# Altium footprint library PcbLib1.PcbLib: 13 footprints
Each footprint in its own frame and in the unit in brackets; x right, y up, seen from the top. Pads: shape width x height; smd on the part's side, far side on the other; paste and mask are expansions set on the pad; w line width, h text height; cw(c..) or ccw(c..) is an arc to the next point about the centre after c.
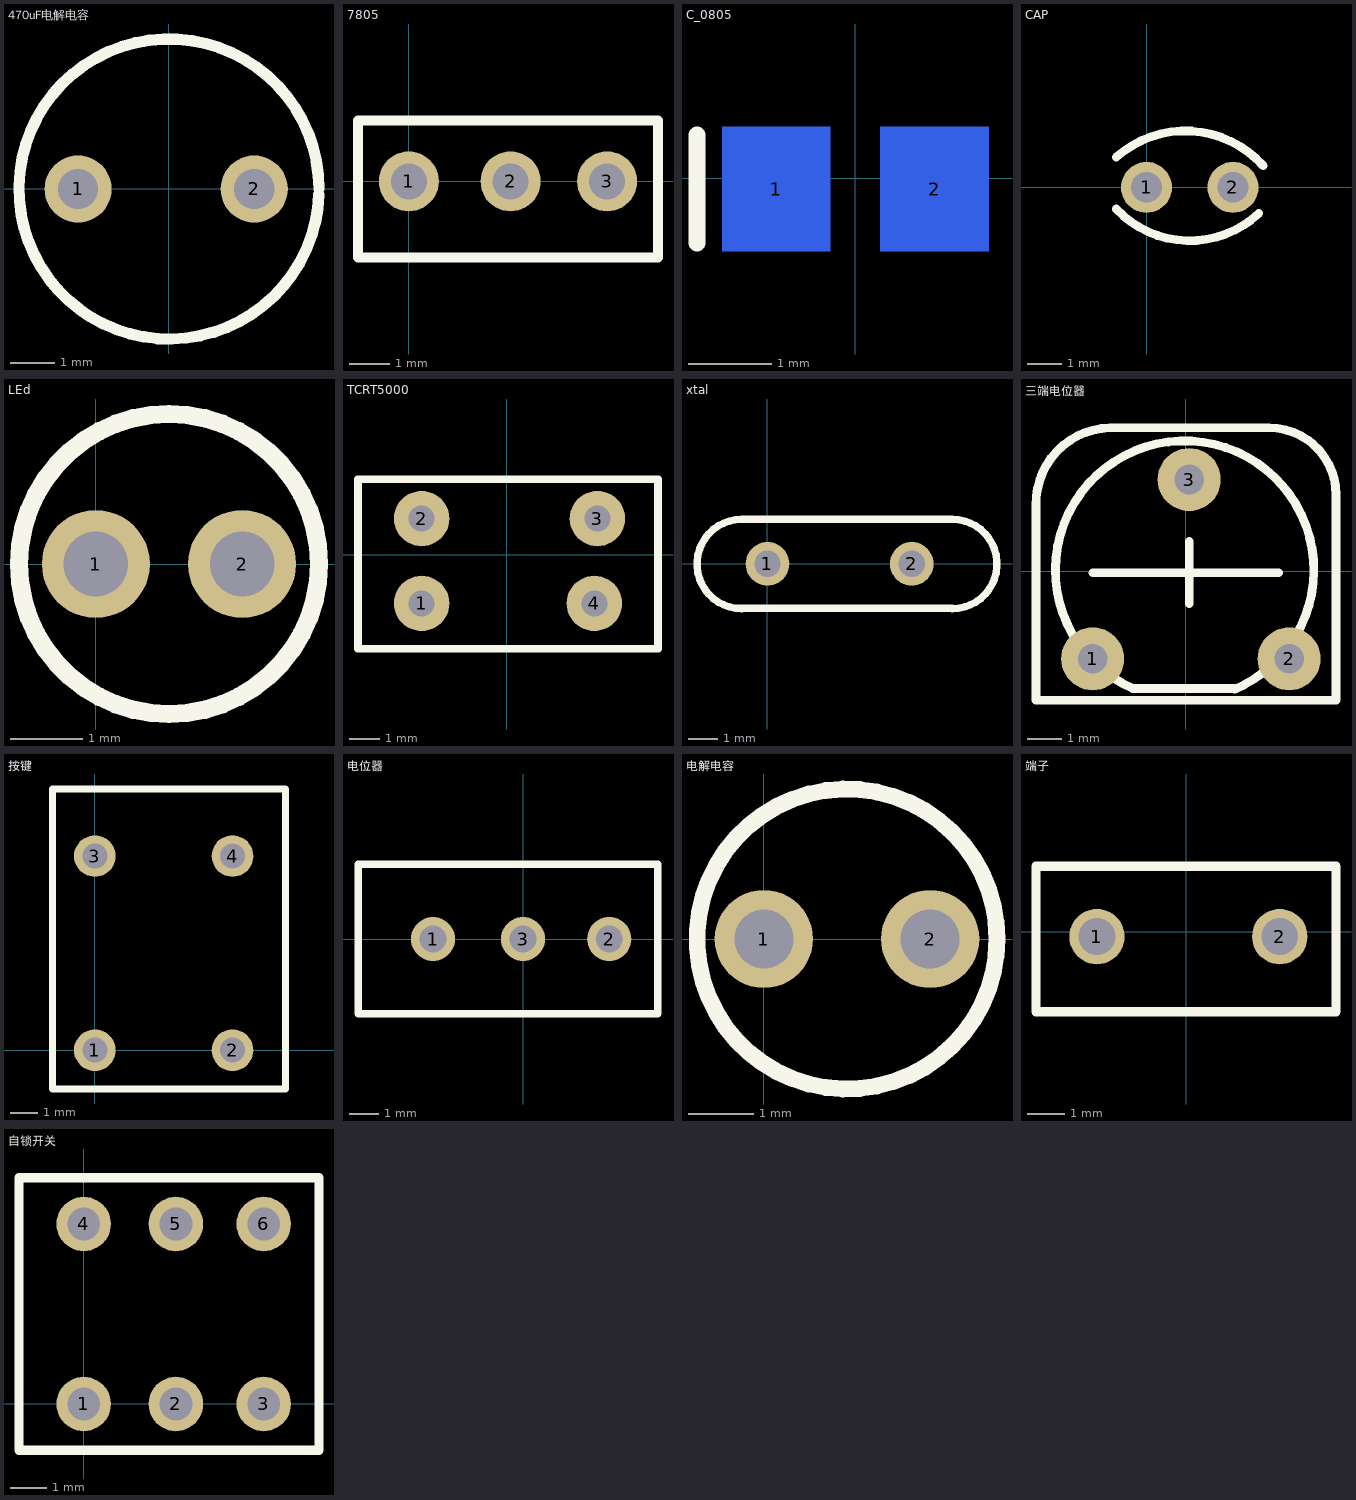
[diagram p0: the footprints below, top view; thin cyan lines are the x and y axes]

## 470uF电解电容 [mm]
pads (2):
  round 1.5 hole 0.9: 1(-2.032,0) 2(1.905,0)
Top Overlay:
  lines w0.254: 3.351,-0.124 cw(c0,0) 3.353,0

## 7805 [mm]
pads (3):
  round 1.5 hole 0.9: 1(0,0) 2(2.54,0) 3(4.953,0)
Top Overlay:
  lines w0.254: -1.27,-1.905 -1.27,1.524 6.223,1.524 6.223,-1.905 -1.27,-1.905

## C_0805 [mm]
pads (2):
  rect 1.3x1.5 smd far side: 1(-0.95,-0.127) 2(0.95,-0.127)
Top Overlay:
  lines w0.2: -1.9,-0.777 -1.9,0.523

## CAP [mm]
pads (2):
  round 1.5 hole 0.9: 1(0,0) 2(2.54,0)
Top Overlay:
  lines w0.254: -0.889,-0.635 ccw(c1.27,1.397) 3.302,-0.762 ; -0.889,0.889 cw(c1.143,-1.397) 3.429,0.635

## LEd [mm]
pads (2):
  round 1.5 hole 0.9: 1(0,0) 2(2.032,0)
Top Overlay:
  circle w0.254: c1.016,0 r2.083

## TCRT5000 [mil]
pads (4):
  round 72 hole 34: 1(-110.79,-63.43) 2(-110.79,46.81) 3(117.56,46.81) 4(113.62,-63.43)
Top Overlay:
  lines w10: -193.46,-122.48 196.3,-122.48 196.3,97.99 -193.46,97.99 -193.46,-122.48

## xtal [mm]
pads (2):
  round 1.5 hole 0.9: 1(0,0) 2(4.953,0)
Top Overlay:
  lines w0.254: -1.016,-1.529 6.35,-1.529 ; -0.889,-1.535 cw(c-0.889,-0.005) -0.889,1.524 6.35,1.524 cw(c6.35,-0.005) 6.35,-1.535

## 三端电位器 [mil]
pads (3):
  round 72 hole 34: 1(-106.26,-99.96) 2(118.15,-99.96) 3(3.98,104.76)
Top Overlay:
  lines w10: -170.92,-147.2 133.9,-147.2 171.62,-147.2 171.62,87.38 ccw(c95.36,87.57) 95.36,163.82 -86.57,163.82 ccw(c-84.47,77.36) -170.92,75.26 -170.92,-145.54 ; -106.26,-1.54 106.34,-1.54 ; 3.98,-36.97 3.98,33.9 ; 55.16,-133.95 -60.1,-133.95 cw(c-1.25,1.38) 55.53,-134.83

## 按键 [mm]
pads (4):
  round 1.5 hole 0.9: 1(0,0) 2(4.953,0) 3(0,6.985) 4(4.953,6.985)
Top Overlay:
  lines w0.254: -1.524,-1.397 6.858,-1.397 6.858,9.398 -1.524,9.398 -1.524,-1.397

## 电位器 [mm]
pads (3):
  round 1.5 hole 0.9: 1(-3.048,0) 2(2.921,0) 3(0,0)
Top Overlay:
  lines w0.254: -5.588,-2.54 4.572,-2.54 4.572,2.54 -5.588,2.54 -5.588,-2.54

## 电解电容 [mm]
pads (2):
  round 1.5 hole 0.9: 1(0,0) 2(2.54,0)
Top Overlay:
  circle w0.254: c1.27,0 r2.29

## 端子 [mm]
pads (2):
  round 1.5 hole 1: 1(-2.413,-0.127) 2(2.54,-0.127)
Top Overlay:
  lines w0.254: -4.064,-2.159 -4.064,1.778 4.064,1.778 4.064,-2.159 -4.064,-2.159

## 自锁开关 [mm]
pads (6):
  round 1.5 hole 0.9: 1(0,0) 2(2.54,0) 3(4.953,0) 4(0,4.953) 5(2.54,4.953) 6(4.953,4.953)
Top Overlay:
  lines w0.254: -1.778,-1.27 -1.778,6.223 6.477,6.223 6.477,-1.27 -1.778,-1.27